# EAGLE library part LPC1114FN28 (library SquantorNxp)
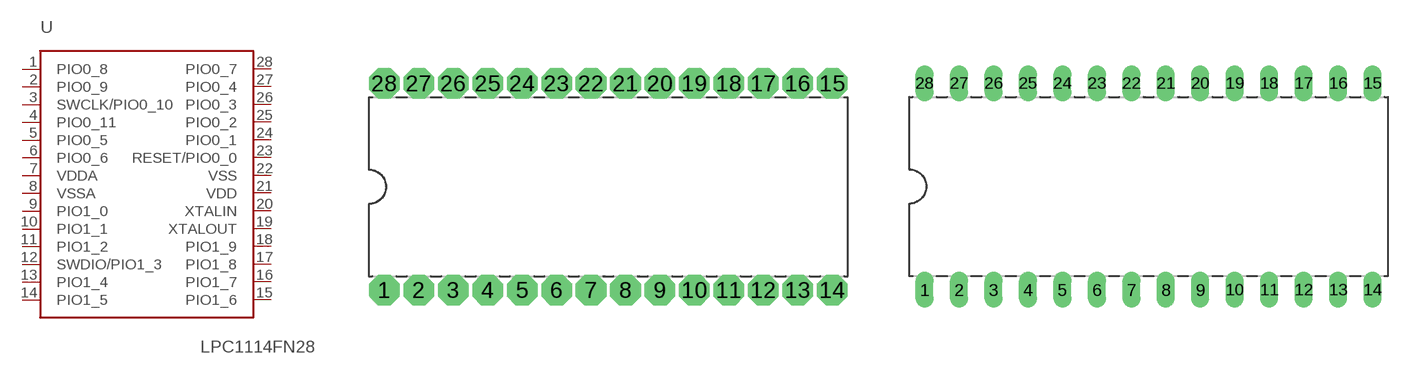
[diagram p9: symbol with the pads of SOT117_TURNPINHOLE; footprints SOT117_TURNPINHOLE, SOT117]

Designator prefix -

## LPC1114FN28TURNPINHOLE  [SOT117_TURNPINHOLE]
1  PIO0_8
2  PIO0_9
3  SWCLK/PIO0_10
4  PIO0_11
5  PIO0_5
6  PIO0_6
7  VDDA
8  VSSA
9  PIO1_0
10  PIO1_1
11  PIO1_2
12  SWDIO/PIO1_3
13  PIO1_4
14  PIO1_5
15  PIO1_6
16  PIO1_7
17  PIO1_8
18  PIO1_9
19  XTALOUT
20  XTALIN
21  VDD
22  VSS
23  RESET/PIO0_0
24  PIO0_1
25  PIO0_2
26  PIO0_3
27  PIO0_4
28  PIO0_7

## LPC1114FN28  [SOT117]
Pads as for SOT117_TURNPINHOLE

## Footprint SOT117_TURNPINHOLE (pad centres in mm)
drill 1.5 pad 1.8 octagon: 1 -16.51,-7.62
drill 1.5 pad 2 octagon: 2 -13.97,-7.62; 3 -11.43,-7.62; 4 -8.89,-7.62; 5 -6.35,-7.62; 6 -3.81,-7.62; 7 -1.27,-7.62; 8 1.27,-7.62; 9 3.81,-7.62; 10 6.35,-7.62; 11 8.89,-7.62; 12 11.43,-7.62; 13 13.97,-7.62; 14 16.51,-7.62; 15 16.51,7.62; 16 13.97,7.62; 17 11.43,7.62; 18 8.89,7.62; 19 6.35,7.62; 20 3.81,7.62; 21 1.27,7.62; 22 -1.27,7.62; 23 -3.81,7.62; 24 -6.35,7.62; 25 -8.89,7.62; 26 -11.43,7.62; 27 -13.97,7.62; 28 -16.51,7.62

## Footprint SOT117 (pad centres in mm)
SOT117 DIP28: plastic dual in-line package; 28 leads (600 mil) JEDEC: MO-015 IEC: 051G05 JEITA: SC-510-28
drill 0.813 long: 1 -16.51,-7.62; 2 -13.97,-7.62; 3 -11.43,-7.62; 4 -8.89,-7.62; 5 -6.35,-7.62; 6 -3.81,-7.62; 7 -1.27,-7.62; 8 1.27,-7.62; 9 3.81,-7.62; 10 6.35,-7.62; 11 8.89,-7.62; 12 11.43,-7.62; 13 13.97,-7.62; 14 16.51,-7.62; 15 16.51,7.62; 16 13.97,7.62; 17 11.43,7.62; 18 8.89,7.62; 19 6.35,7.62; 20 3.81,7.62; 21 1.27,7.62; 22 -1.27,7.62; 23 -3.81,7.62; 24 -6.35,7.62; 25 -8.89,7.62; 26 -11.43,7.62; 27 -13.97,7.62; 28 -16.51,7.62